# EAGLE library part SC16IS750IPW (library debauer_ics)
IC, UART, I2C/SPI INTERFACE, 24TSSOP
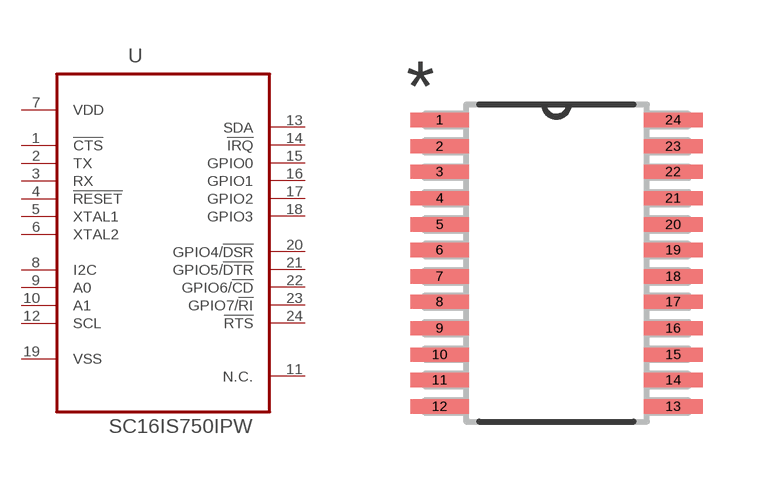
[diagram p22: symbol with the pads of SOP65P640X110-24N; footprint SOP65P640X110-24N]

Designator prefix U

## SC16IS750IPW (MPN: SC16IS750IPW; OC_FARNELL: 2212112; OC_NEWARK: 55W4424; PACKAGE: 24TSSOP; SUPPLIER: NXP)  [SOP65P640X110-24N]
1  !CTS  in
2  TX  out
3  RX  in
4  !RESET  in
5  XTAL1  in
6  XTAL2  out
7  VDD  pwr
8  I2C  in
9  A0  in
10  A1  in
11  N.C.  nc
12  SCL  in
13  SDA
14  !IRQ  out
15  GPIO0
16  GPIO1
17  GPIO2
18  GPIO3
19  VSS  pas
20  GPIO4/!DSR!
21  GPIO5/!DTR!
22  GPIO6/!CD!
23  GPIO7/!RI!
24  !RTS  pas

## Footprint SOP65P640X110-24N (pad centres in mm)
smd 1.473 x 0.356: 1 -2.921,3.581; 2 -2.921,2.921; 3 -2.921,2.286; 4 -2.921,1.626; 5 -2.921,0.965; 6 -2.921,0.33; 7 -2.921,-0.33; 8 -2.921,-0.965; 9 -2.921,-1.626; 10 -2.921,-2.286; 11 -2.921,-2.921; 12 -2.921,-3.581; 13 2.921,-3.581; 14 2.921,-2.921; 15 2.921,-2.286; 16 2.921,-1.626; 17 2.921,-0.965; 18 2.921,-0.33; 19 2.921,0.33; 20 2.921,0.965; 21 2.921,1.626; 22 2.921,2.286; 23 2.921,2.921; 24 2.921,3.581